# Altium integrated library Crystal.IntLib: 33 symbols
Pins are listed as number, name and electrical type; pins without a type are passive.

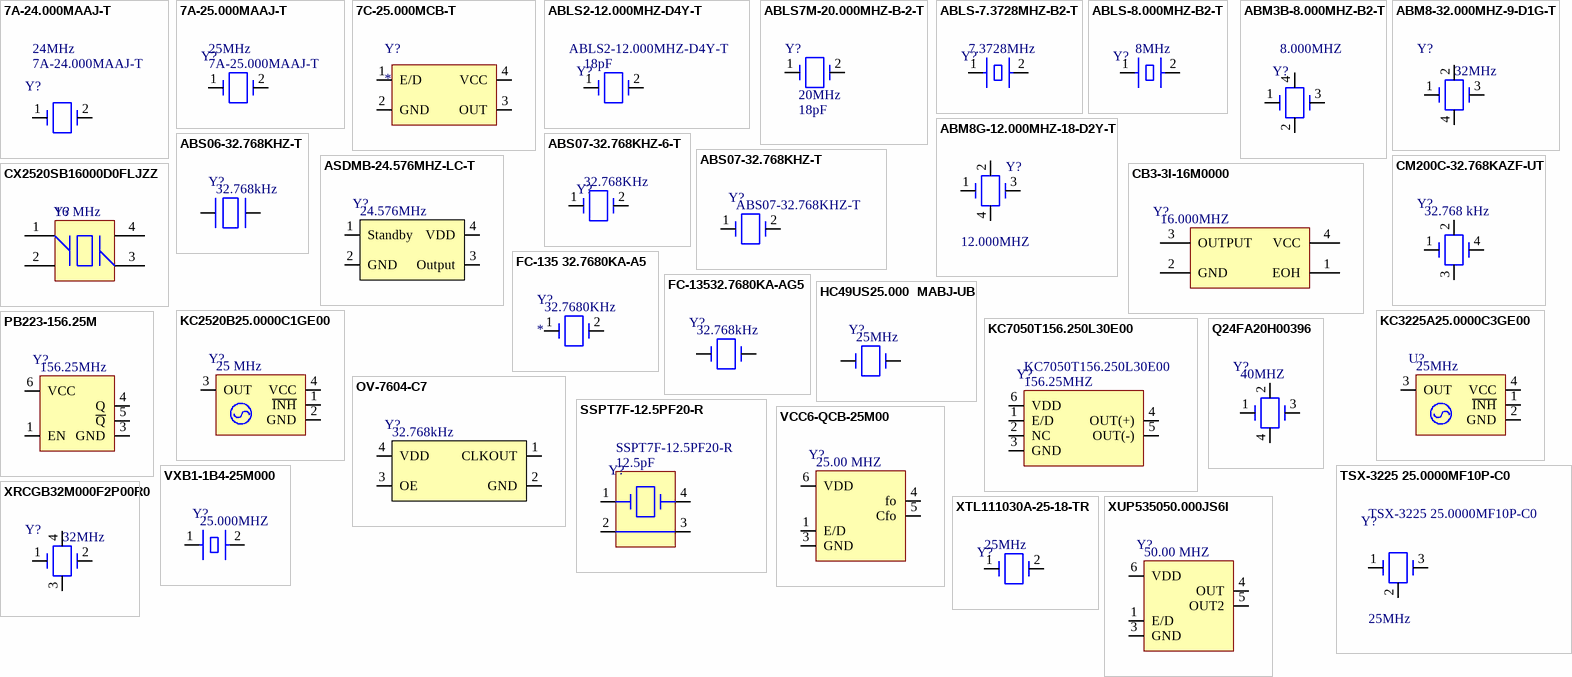
[diagram p0: symbols 7A-24.000MAAJ-T to XUP535050.000JS6I]

## 7A-24.000MAAJ-T
designator Y?  value 24MHz  MPN: 7A-24.000MAAJ-T  (hidden comment: *)
CRYSTAL 24.0000MHZ 18PF SMD; MFT: TXC CORPORATION; TYPE: SMD; RATING: *; FUNCTION: *; DNP: *
footprint 7A-24.000MAAJ-T
pins: 1, 2

## 7A-25.000MAAJ-T
designator Y?  value 25MHz  MPN: 7A-25.000MAAJ-T  (hidden comment: *)
CRYSTAL 25.0000MHZ 18PF SMD; MFT: TXC CORPORATION; TYPE: Surface Mount
footprint 7A-25.000MAAJ-T
pins: 1, 2

## 7C-25.000MCB-T
designator Y?
OSC XO 25.000MHZ CMOS SMD; MPN: 7C-25.000MCB-T; MFT: TXC CORPORATION; FUNCTION: *; DNP: *; TYPE: *; RATING: *
footprint 7C-25.000MCB-T
pins: 1 E/D, 2 GND, 3 OUT, 4 VCC

## ABLS2-12.000MHZ-D4Y-T
designator Y?  value 18pF  MPN: ABLS2-12.000MHZ-D4Y-T  (hidden comment: *)
CRYSTAL 12.0000MHZ 18PF SMD; MFT: Abracon LLC; RATING: *; TYPE: SMD; LOAD: *
pins: 1, 2

## ABLS7M-20.000MHZ-B-2-T
designator Y?  value 20MHz  RATING: 18pF  (hidden comment: ABLS7M-20.000MHZ-B-2-T)
CRYSTAL 20.000 MHZ 18PF SMT; MFT: Abracon LLC; MPN: ABLS7M-20.000MHZ-B-2-T; TYPE: Surface Mount
footprint ABLS7M (crystal)
pins: 1, 2

## ABLS-7.3728MHZ-B2-T
designator Y?  value 7.3728MHz  (hidden comment: *)
CRYSTAL 7.3728MHZ 18PF SMD; MPN: ABLS-7.3728MHZ-B2-T; MFT: Abracon LLC; TYPE: Surface Mount
footprint ABLS-7.3728MHZ-B2-T
pins: 1, 2

## ABLS-8.000MHZ-B2-T
designator Y?  value 8MHz  (hidden comment: *)
CRYSTAL 8.0000MHZ 18PF SMD; MPN: ABLS-8.000MHZ-B2-T; MFT: Abracon LLC; DNP: *; FUNCTION: *; RATING: 8.0000MHZ 18PF; TYPE: SMD
footprint ABLS-8.000MHZ-B2-T
pins: 1, 2

## ABM3B-8.000MHZ-B2-T
designator Y?  value 8.000MHZ  (hidden comment: *)
CRYSTAL 8.0000MHZ 18PF SMD; MPN: ABM3B-8.000MHZ-B2-T; MFT: Abracon LLC; TYPE: Surface Mount
footprint ABM3B-8.000MHZ-B2-T
pins: 1, 2, 3, 4

## ABM8-32.000MHZ-9-D1G-T
designator Y?  value 32MHz  (hidden comment: *)
CRYSTAL 32.0000MHZ 9PF SMD; MPN: ABM8-32.000MHZ-9-D1G-T; MFT: Abracon; APN: XZ-00326FH; RATING: *; LOAD: *; TYPE: SMD
footprint OSCCC320X250X80L75X100N (Oscillator, Corner Concave; 3.20 mm L X 2.50 mm W X 0.80 mm H body)
pins: 1, 2, 3, 4

## ABM8G-12.000MHZ-18-D2Y-T
designator Y?  value 12.000MHZ
ABRACON - ABM8G-12.000MHZ-18-D2Y-T - CRYSTAL, 12MHz,18pF, 3.2mm x 2.5mm SMD, FULL REEL; MFT: ABRACON; MPN: ABM8G-12.000MHZ-18-D2Y-T; TYPE: Surface Mount; RATING: 18pF
footprint 4SMD-crystal
pins: 1, 2, 3, 4

## ABS06-32.768KHZ-T
designator Y?  value 32.768kHz  (hidden comment: *)
CRYSTAL 32.7680KHZ 12.5PF SMD; MPN: ABS06-32.768KHZ-T; MFT: Abracon LLC; TYPE: Surface Mount
footprint ABS06-32.768KHZ-T
pins: 1, 2

## ABS07-32.768KHZ-6-T
designator Y?  value 32.768KHz  (hidden comment: *)
CRYSTAL 32.7680KHZ 6PF SMD; MPN: ABS07-32.768KHZ-6-T; MFT: Abracon LLC; TYPE: Surface Mount
footprint ABS07-32.768KHZ-6-T
pins: 1, 2

## ABS07-32.768KHZ-T
designator Y?  MPN: ABS07-32.768KHZ-T  (hidden comment: *)
CRYSTAL 32.7680KHZ 12.5PF SMD; MFT: Abracon LLC; VALUE: 32.768kHz; TYPE: Surface Mount
footprint ABS07-32.768KHZ-T
pins: 1, 2

## ASDMB-24.576MHZ-LC-T
designator Y?  value 24.576MHz  (hidden comment: *)
OSC MEMS 24.576MHZ CMOS SMD; MPN: ASDMB-24.576MHZ-LC-T; MFT: Abracon LLC; TYPE: SMD; RATING: *; FUNCTION: *; DNP: *
footprint ASDMB-24.576MHZ
pins: 1 Standby, 2 GND, 3 Output, 4 VDD

## CB3-3I-16M0000
designator Y?  value 16.000MHZ  (hidden comment: *)
OSC XO 16.000MHZ HCMOS TTL SMD; MPN: CB3-3I-16M0000; MFT: CTS-Frequency Controls; TYPE: Surface Mount
footprint CB3-3I-16M0000
pins: 1 EOH, 2 GND, 3 OUTPUT, 4 VCC

## CM200C-32.768KAZF-UT
designator Y?  value 32.768 kHz  (hidden comment: *)
Crystals 32.768K 30ppm 12.5pF; MPN: CM200C-32.768KAZF-UT; MFT: Citizen Finetech Miyota; TYPE: Surface Mount
footprint CM200C32768AZFT
pins: 1, 2, 3, 4

## CX2520SB16000D0FLJZZ
designator Y?  value 16 MHz  (hidden comment: *)
Crystals 16000kHz 8pF With Thermistor; MPN: CX2520SB16000D0FLJZZ; MFT: AVX / Kyocera; TYPE: SMD/SMT
footprint CX2520SB16000D0FLJZZ
pins: 1 HOT, 2 GND, 3 HOT, 4 GND

## FC-135 32.7680KA-A5
designator Y?  value 32.7680KHz
CRYSTAL 32.7680 KHZ 12.5PF SMD; Manufacturer: EPSON; Manufacturer Part Number: FC-135 32.7680KA-A5; LOAD: *; TYPE: SMD; RATING: *
footprint FC-135
pins: 1, 2

## FC-13532.7680KA-AG5
designator Y?  value 32.768kHz  (hidden comment: *)
CRYSTAL 32.7680 KHZ 7.0PF SMD; MPN: FC-13532.7680KA-AG5; MFT: Epson; APN: XZ-32761GH; LOAD: *; RATING: *; TYPE: SMD
footprint XTAL320X150X80L75X150N (CRYSTAL; 3.20 mm L X 1.50 mm W X 0.80 mm H body)
pins: 1, 2

## HC49US25.000  MABJ-UB
designator Y?  value 25MHz  (hidden comment: *)
CRYSTAL 25.000 MHZ HC49/US; MPN: HC49US25.000  MABJ-UB; MFT: Citizen; TYPE: Through-Hole
footprint HC-49/U-S25000000ABJB
pins: 1, 2

## KC2520B25.0000C1GE00
designator Y?  value 25 MHz  (hidden comment: *)
Standard Clock Oscillators 25.0000MHZ 1.8/2.5/3.3V; MPN: KC2520B25.0000C1GE00; MFT: AVX / Kyocera; TYPE: SMD/SMT
footprint KC2520B25.0000C1GE00
pins: 1 ~{INH}, 2 GND, 3 OUT, 4 VCC

## KC3225A25.0000C3GE00
designator U?  value 25MHz  (hidden comment: *)
OSCILLATOR XO 25.000MHZ CMOS SMD; MPN: KC3225A25.0000C3GE00; MFT: AVX Corp/Kyocera Corp; TYPE: Surface Mount
footprint KC3225A25.0000C3GE00
pins: 1 ~{INH}, 2 GND, 3 OUT, 4 VCC

## KC7050T156.250L30E00
designator Y?  MPN: KC7050T156.250L30E00  RATING: 156.25MHZ  (hidden comment: *)
OSC SO 156.25MHZ LVDS SMD; MFT: AVX Corp/Kyocera Corp; VALUE: KC7050T156.250L30E00; LOAD: *; TYPE: SMD
footprint KC7050T156.250L30E00 (OSC6_SMD_7X5X1D1)
pins: 1 E/D, 2 NC, 3 GND, 4 OUT(+), 5 OUT(-), 6 VDD

## OV-7604-C7
designator Y?  value 32.768kHz  (hidden comment: *)
MICRO CRYSTAL - OV-7604-C7 - OSCILLATOR, 32.768KHZ, 3.2 X 1.5MM, HCMOS; MFT: MICRO CRYSTAL; MPN: OV-7604-C7; TYPE: Surface Mount
footprint OV-7604-C7
pins: 1 CLKOUT, 2 GND, 3 OE, 4 VDD

## PB223-156.25M
designator Y?  value 156.25MHz  (hidden comment: *)
OSC XO 156.25MHZ LVPECL SMD; MPN: PB223-156.25M; MFT: Connor-Winfield; TYPE: Surface Mount
footprint PB223-156.25M
pins: 1 EN, 3 GND, 4 Q, 5 ~{Q}, 6 VCC

## Q24FA20H00396
designator Y?  value 40MHZ  (hidden comment: *)
CRYSTAL 40MHZ 8PF SMD; MPN: Q24FA20H00396; MFT: EPSON; TYPE: Surface Mount
footprint Q24FA20H00396
pins: 1, 2, 3, 4

## SSPT7F-12.5PF20-R
designator Y?  value 12.5pF  MPN: SSPT7F-12.5PF20-R  (hidden comment: *)
CRYSTAL 32.7680KHZ 12.5PF SMD; MFT: Seiko Instruments; RATING: *; TYPE: *; LOAD: *
footprint SSPT7F-12.5PF20-R
pins: 1, 2, 3, 4

## TSX-3225 25.0000MF10P-C0
designator Y?  value 25MHz  MPN: TSX-3225 25.0000MF10P-C0  (hidden comment: *)
CRYSTAL 25.0000MHZ 18PF SMD; MFT: EPSON; TYPE: SMD; RATING: *; LOAD: *
footprint 4SMD-crystal
pins: 1, 2, 3, 4

## VCC6-QCB-25M00
designator Y?  value 25.00 MHZ  (hidden comment: *)
2.5 and 3.3 volt LVPECL Crystal Oscillator; MPN: VCC6-QCB-25M00; MFT: Vectron; TYPE: Surface Mount
footprint VCC6-QCB-25M00
pins: 1 E/D, 3 GND, 4 fo, 5 Cfo, 6 VDD

## VXB1-1B4-25M000
designator Y?  value 25.000MHZ  (hidden comment: *)
Crystals 25MHz 50ppm 18pF -20C +70C; MPN: VXB1-1B4-25M000; MFT: Vectron; TYPE: Surface Mount
footprint VXB1-1B4-25M000
pins: 1, 2

## XRCGB32M000F2P00R0
designator Y?  value 32MHz  (hidden comment: *)
CRYSTAL 32.0000MHZ 6PF SMD; MPN: XRCGB32M000F2P00R0; MFT: Murata Electronics North America; TYPE: SMD; LOAD: *; RATING: *
footprint XRCGB32M000F2P00R0
pins: 1, 2, 3, 4

## XTL111030A-25-18-TR
designator Y?  value 25MHz  (hidden comment: *)
XTAL EC07 SMD 25.000000MHz 30_30_5PPM 18pF FUNDAMENTAL 12.3X4.7X4.2mm; MPN: XTL111030A-25-18-TR; MFT: Siward Crystal Technology Co., Ltd.; TYPE: Surface Mount
footprint XTL111030A-25-18-TR
pins: 1, 2

## XUP535050.000JS6I
designator Y?  value 50.00 MHZ  (hidden comment: *)
Standard Clock Oscillators LVPECL Crystal Osc 50ppm 3.3V 50Mhz; MPN: XUP535050.000JS6I; MFT: IDT; TYPE: Surface Mount
footprint XUP535050.000JS6I
pins: 1 E/D, 3 GND, 4 OUT, 5 OUT2, 6 VDD